# EAGLE library part LVL_SHIFTER (library LevelShift_LSF0102DQER)
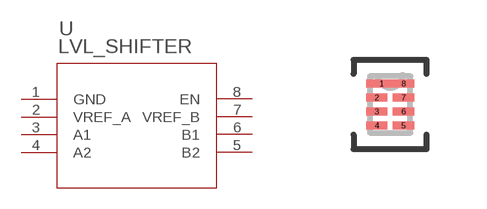
[diagram p0: symbol with the pads of DQE8; footprint DQE8]

Designator prefix U

## LVL_SHIFTER (DESCRIPTION: IC TRNSLTR BIDIRECTIONAL 8X2SON; LINK: https://www.digikey.com/product-detail/en/texas-instruments/LSF0102DQER/296-40399-1-ND/5178276; MANUFACTURER: Texas Instruments; MANUFACTURER_PART_NUM: LSF0102DQER)  [DQE8]
1  GND  pwr
2  VREF_A  pas
3  A1  pas
4  A2  pas
5  B2  pas
6  B1  pas
7  VREF_B  pas
8  EN  in

## Footprint DQE8 (pad centres in mm)
smd 0.784 x 0.2: 1 -0.208,0.525
smd 0.53 x 0.2: 2 -0.335,0.175; 3 -0.335,-0.175; 4 -0.335,-0.525; 5 0.335,-0.525; 6 0.335,-0.175; 7 0.335,0.175; 8 0.335,0.525